# Altium schematic symbol library INA700_STAMP_V1.0.SchLib: 1 symbol
Pins are listed as number, name and electrical type; pins without a type are passive.

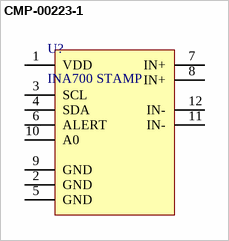
[diagram p0: symbol CMP-00223-1]

## CMP-00223-1
designator U?, comment INA700 STAMP
INA700 STAMP PCBA Made by the Flamingo; Manufacturer: The Flamingo; Manufacturer Part Number: INA700 STAMP
footprint INA700 STAMP-Footprint-1
footprint New footprint 1
pins: 1 VDD, 2 GND, 3 SCL, 4 SDA, 5 GND, 6 ALERT, 7 IN+, 8 IN+, 9 GND, 10 A0, 11 IN-, 12 IN-